# Altium footprint library UFDFN-8.PcbLib: 1 footprints
Each footprint in its own frame and in the unit in brackets; x right, y up, seen from the top. Pads: shape width x height; smd on the part's side, far side on the other; paste and mask are expansions set on the pad; w line width, h text height; cw(c..) or ccw(c..) is an arc to the next point about the centre after c.
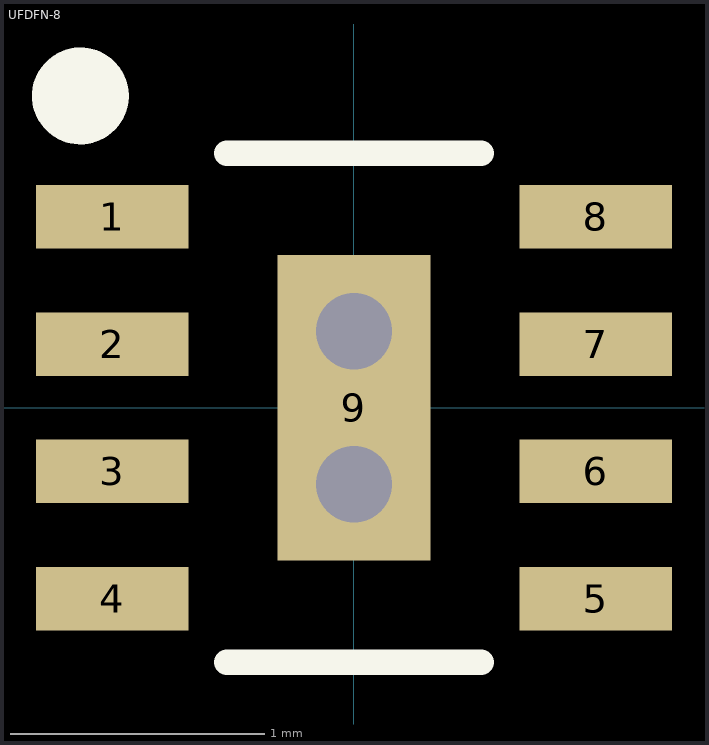
[diagram p0: the footprint, top view; thin cyan lines are the x and y axes]

## UFDFN-8 [mm]
pads (9):
  rect 0.6x0.25 smd mask+0.05: 1(-0.95,0.75) 2(-0.95,0.25) 3(-0.95,-0.25) 4(-0.95,-0.75) 5(0.95,-0.75) 6(0.95,-0.25) 7(0.95,0.25) 8(0.95,0.75)
  rect 0.6x1.2 smd: 9(0,0)
via 0,0.3 diameter 0.6 hole 0.3
via 0,-0.3 diameter 0.6 hole 0.3
Top Overlay:
  circle w0.2: c-1.075,1.225 r0.09
  lines w0.1: -0.5,-1 0.5,-1 ; -0.5,1 0.5,1
3D body: height 0.55, standoff 0, extent -1,-1 1,1